# EAGLE library part THS4131 (library opamps)
THS4131: High-speed differential I/O amplifier (Texas Instruments) ±15V, ±20mA, 6µA bias 3mV offset, 125MHz UGF, 1.3nV/rt(Hz) noise
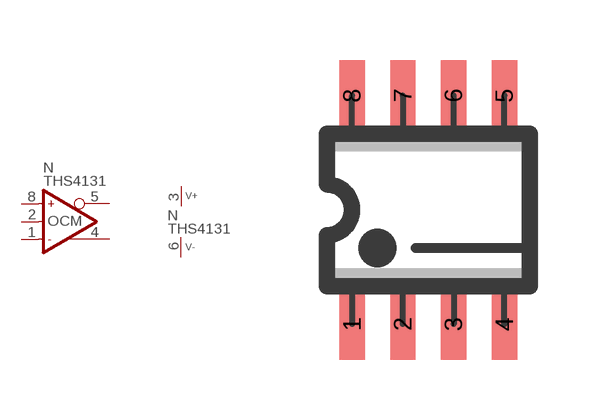
[diagram p256: symbol with the pads of SO08; footprint SO08]

Designator prefix N; gates A=DIF_2 P=V+-

## THS4131  [SO08]
1  A:OP-  in
2  A:OCM  in
3  P:V+  pwr
4  A:OPO+  out
5  A:OPO-  out
6  P:V-  pwr
8  A:OP+  in

## THS4131S  [SO08]
Pads as for SO08

## Footprint SO08 (pad centres in mm)
SO-8, SMD SOIC IC package, 8 pins
smd 0.635 x 1.778: 1 -1.905,-2.857; 2 -0.635,-2.857; 3 0.635,-2.857; 4 1.905,-2.857; 5 1.905,2.857; 6 0.635,2.857; 7 -0.635,2.857; 8 -1.905,2.857